# EAGLE library part TXS0206-29 (library TinWhiskers)
Level Shifter: Voltage, SecureDigital, TXS0206-29; Package: XBGA-20; Datasheet: http://www.ti.com/lit/ds/symlink/txs0206-29.pdf
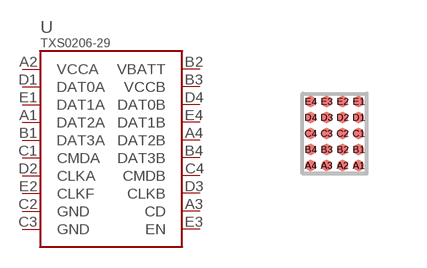
[diagram p30: symbol with the pads of 20-XFBGA; footprint 20-XFBGA]

Designator prefix U

## TXS0206-29  [20-XFBGA]
A1  DAT2A
A2  VCCA
A3  CD
A4  DAT2B
B1  DAT3A
B2  VBATT
B3  VCCB
B4  DAT3B
C1  CMDA
C2  GND
C3  GND
C4  CMDB
D1  DAT0A
D2  CLKA
D3  CLKB
D4  DAT0B
E1  DAT1A
E2  CLKF
E3  EN
E4  DAT1B

## Footprint 20-XFBGA (pad centres in mm)
XBGA (20-Pin); Datasheet: http://www.ti.com/lit/ds/symlink/txs0206-29.pdf
smd 0.27 x 0.27: A1 0.6,-0.8; A2 0.2,-0.8; A3 -0.2,-0.8; A4 -0.6,-0.8; B1 0.6,-0.4; B2 0.2,-0.4; B3 -0.2,-0.4; B4 -0.6,-0.4; C1 0.6,0; C2 0.2,0; C3 -0.2,0; C4 -0.6,0; D1 0.6,0.4; D2 0.2,0.4; D3 -0.2,0.4; D4 -0.6,0.4; E1 0.6,0.8; E2 0.2,0.8; E3 -0.2,0.8; E4 -0.6,0.8